# Altium schematic symbol library Molex_4-pin.SchLib: 1 symbol
Pins are listed as number, name and electrical type; pins without a type are passive.

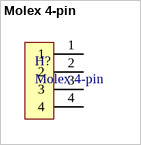
[diagram p0: symbol Molex 4-pin]

## Molex 4-pin
designator H?
Micro-Fit 3.0 Vertical Header, 3.00mm Pitch, Dual Row, 4 Circuits, with Solder Tab, Tin, Glow-Wire Capable, Black (43045-0418) + Micro-Fit 3.0 Receptacle Housing, Dual Row, 4 Circuits, UL 94V-0, Low-Halogen, Black (43025-0400)
footprint Communication Connector (Micro-Fit 3.0 Vertical Header, 3.00mm Pitch, Dual Row, 4 Circuits, with Solder Tab, Tin, Glow-Wire Capable, Black + Micro-Fit 3.0 Receptacle Housing, Dual Row, 4 Circuits, UL 94V-0, Low-Halogen, Black)
pins: 1, 2, 3, 4